# Altium footprint library QFN_TQFN_VQFN_LGA_LLC_LFCSP.PcbLib: 23 footprints (part 2 of 2)
Each footprint in its own frame and in the unit in brackets; x right, y up, seen from the top. Pads: shape width x height; smd on the part's side, far side on the other; paste and mask are expansions set on the pad; w line width, h text height; cw(c..) or ccw(c..) is an arc to the next point about the centre after c.
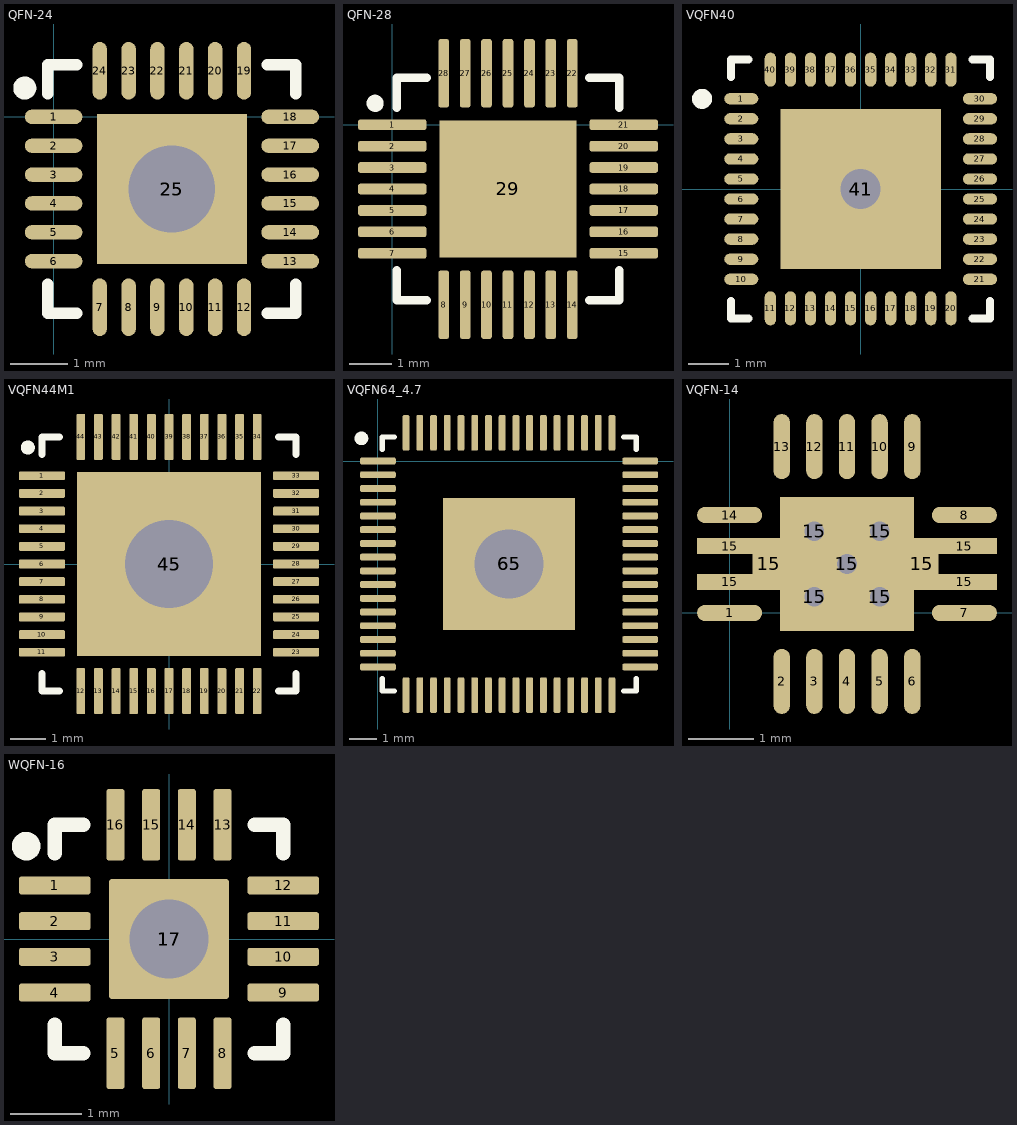
[diagram p1: the footprints below, top view; thin cyan lines are the x and y axes]

## QFN-24 [mm]
height 0.85
pads (26):
  oval 1x0.25 smd: 1(0,0) 2(0,-0.5) 3(0,-1) 4(0,-1.5) 5(0,-2) 6(0,-2.5) 13(4.1,-2.5) 14(4.1,-2) 15(4.1,-1.5) 16(4.1,-1) 17(4.1,-0.5) 18(4.1,0)
  oval 0.25x1 smd: 7(0.8,-3.3) 8(1.3,-3.3) 9(1.8,-3.3) 10(2.3,-3.3) 11(2.8,-3.3) 12(3.3,-3.3) 19(3.3,0.8) 20(2.8,0.8) 21(2.3,0.8) 22(1.8,0.8) 23(1.3,0.8) 24(0.8,0.8)
  rect 2.6x2.6 smd mask+0.102: 25(2.05,-1.25)
  round 2 hole 1.5: 25(2.05,-1.25)
Top Overlay:
  circle w0.2: c-0.5,0.5 r0.1
  lines w0.2: -0.1,-2.9 -0.1,-3.4 0.4,-3.4 ; -0.1,0.4 -0.1,0.9 0.4,0.9 ; 3.7,-3.4 4.2,-3.4 4.2,-2.9 ; 3.7,0.9 4.2,0.9 4.2,0.4
Top Paste:
  region: 2.05,-2.02 2.95,-2.02 2.95,-1.12 2.05,-1.12
  region: 2.05,-0.82 2.95,-0.82 2.95,0.08 2.05,0.08
  region: 0.85,-0.82 1.75,-0.82 1.75,0.08 0.85,0.08
  region: 0.85,-2.02 1.75,-2.02 1.75,-1.12 0.85,-1.12
Top Assembly:
  text ".Designator" at -2.948,-1.583 h1
3D body "User Library-QFN24_4x4.STEP": height 1, standoff 0, extent 0.04,-3.26 4.06,0.76

## QFN-28 [mm]
pads (29):
  rrect50% 1.6x0.25 smd: 1(0,0) 2(0,-0.5) 3(0,-1) 4(0,-1.5) 5(0,-2) 6(0,-2.5) 7(0,-3) 15(5.4,-3) 16(5.4,-2.5) 17(5.4,-2) 18(5.4,-1.5) 19(5.4,-1) 20(5.4,-0.5) 21(5.4,0)
  rrect50% 0.25x1.6 smd: 8(1.2,-4.2) 9(1.7,-4.2) 10(2.2,-4.2) 11(2.7,-4.2) 12(3.2,-4.2) 13(3.7,-4.2) 14(4.2,-4.2) 22(4.2,1.2) 23(3.7,1.2) 24(3.2,1.2) 25(2.7,1.2) 26(2.2,1.2) 27(1.7,1.2) 28(1.2,1.2)
  rect 3.2x3.2 smd: 29(2.7,-1.5)
Top Overlay:
  circle w0.2: c-0.4,0.5 r0.1
  lines w0.2: 0.1,-3.4 0.1,-4.1 0.8,-4.1 ; 0.1,0.4 0.1,1.1 0.8,1.1 ; 4.6,-4.1 5.3,-4.1 5.3,-3.4 ; 4.6,1.1 5.3,1.1 5.3,0.4
Top Assembly:
  text ".Designator" at -2.298,-1.833 h1
3D body "User Library-QFN28.STEP": height 0.9, standoff 0, extent 0.18,-4.02 5.22,1.02

## VQFN40 [mm] "QFN, 40-Leads, Body 6x6mm, Pitch 0.5mm, Thermal Pad 2.9x2.9mm, TI Recommended"
height 1
pads (42):
  oval 0.85x0.28 smd paste-0.025 mask+0.07: 1(-2.975,2.25) 2(-2.975,1.75) 3(-2.975,1.25) 4(-2.975,0.75) 5(-2.975,0.25) 6(-2.975,-0.25) 7(-2.975,-0.75) 8(-2.975,-1.25) 9(-2.975,-1.75) 10(-2.975,-2.25) 21(2.975,-2.25) 22(2.975,-1.75) 23(2.975,-1.25) 24(2.975,-0.75) 25(2.975,-0.25) 26(2.975,0.25) 27(2.975,0.75) 28(2.975,1.25) 29(2.975,1.75) 30(2.975,2.25)
  oval 0.28x0.85 smd paste-0.025 mask+0.07: 11(-2.25,-2.975) 12(-1.75,-2.975) 13(-1.25,-2.975) 14(-0.75,-2.975) 15(-0.25,-2.975) 16(0.25,-2.975) 17(0.75,-2.975) 18(1.25,-2.975) 19(1.75,-2.975) 20(2.25,-2.975) 31(2.25,2.975) 32(1.75,2.975) 33(1.25,2.975) 34(0.75,2.975) 35(0.25,2.975) 36(-0.25,2.975) 37(-0.75,2.975) 38(-1.25,2.975) 39(-1.75,2.975) 40(-2.25,2.975)
  rect 4x4 smd paste-2.45 mask+0.07: 41(0,0)
  round 1.5 hole 1: 41(0,0)
Top Overlay:
  circle w0.25: c-3.953,2.246 r0.125
  lines w0.2: -3.225,-2.79 -3.225,-3.225 -2.79,-3.225 ; -3.225,2.79 -3.225,3.225 -2.79,3.225 ; 2.79,-3.225 3.225,-3.225 3.225,-2.79 ; 2.79,3.225 3.225,3.225 3.225,2.79
Top Paste:
  region: 0.15,-0.15 0.15,-1.35 1.35,-1.35 1.35,-0.15
  region: -0.15,-0.15 -1.35,-0.15 -1.35,-1.35 -0.15,-1.35
  region: -0.15,0.15 -0.15,1.35 -1.35,1.35 -1.35,0.15
  rectangle: 0.15,0.15 1.35,1.35
Top Assembly:
  text ".Designator" at -4.998,-0.333 h1
3D body "User Library-QFN-40.STEP": height 1.05, standoff 0, extent -3.075,-3.075 3.075,3.075

## VQFN44M1 [mm]
height 1
pads (46):
  rrect25% 1.3x0.25 smd: 1(-3.6,2.5) 2(-3.6,2) 3(-3.6,1.5) 4(-3.6,1) 5(-3.6,0.5) 6(-3.6,0) 7(-3.6,-0.5) 8(-3.6,-1) 9(-3.6,-1.5) 10(-3.6,-2) 11(-3.6,-2.5) 23(3.6,-2.5) 24(3.6,-2) 25(3.6,-1.5) 26(3.6,-1) 27(3.6,-0.5) 28(3.6,0) 29(3.6,0.5) 30(3.6,1) 31(3.6,1.5) 32(3.6,2) 33(3.6,2.5)
  rrect25% 0.25x1.3 smd: 12(-2.5,-3.6) 13(-2,-3.6) 14(-1.5,-3.6) 15(-1,-3.6) 16(-0.5,-3.6) 17(0,-3.6) 18(0.5,-3.6) 19(1,-3.6) 20(1.5,-3.6) 21(2,-3.6) 22(2.5,-3.6) 34(2.5,3.6) 35(2,3.6) 36(1.5,3.6) 37(1,3.6) 38(0.5,3.6) 39(0,3.6) 40(-0.5,3.6) 41(-1,3.6) 42(-1.5,3.6) 43(-2,3.6) 44(-2.5,3.6)
  rect 5.2x5.2 smd: 45(0,0)
  round 3 hole 2.5: 45(0,0)
Top Overlay:
  circle w0.2: c-4,3.3 r0.1
  lines w0.2: -3.6,-3.1 -3.6,-3.6 -3.1,-3.6 ; -3.6,3.1 -3.6,3.6 -3.1,3.6 ; 3.1,-3.6 3.6,-3.6 3.6,-3.1 ; 3.1,3.6 3.6,3.6 3.6,3.1
Top Assembly:
  text ".Designator" at -4.998,-0.333 h1
3D body "User Library-QFN 44.STEP": height 0.8, standoff -0.05, extent -3.5,-3.5 3.502,3.502

## VQFN64_4.7 [mm] "QFN, 64-Leads, Body 9x9mm, Pitch 0.5mm, Thermal Pad 4.7x4.7mm, IPC Low Density"
height 1
pads (66):
  rrect50% 1.3x0.25 smd: 1(0,0) 2(0,-0.5) 3(0,-1) 4(0,-1.5) 5(0,-2) 6(0,-2.5) 7(0,-3) 8(0,-3.5) 9(0,-4) 10(0,-4.5) 11(0,-5) 12(0,-5.5) 13(0,-6) 14(0,-6.5) 15(0,-7) 16(0,-7.5) 33(9.55,-7.5) 34(9.55,-7) 35(9.55,-6.5) 36(9.55,-6) 37(9.55,-5.5) 38(9.55,-5) 39(9.55,-4.5) 40(9.55,-4) 41(9.55,-3.5) 42(9.55,-3) 43(9.55,-2.5) 44(9.55,-2) 45(9.55,-1.5) 46(9.55,-1) 47(9.55,-0.5) 48(9.55,0)
  rrect50% 0.25x1.3 smd: 17(1.025,-8.525) 18(1.525,-8.525) 19(2.025,-8.525) 20(2.525,-8.525) 21(3.025,-8.525) 22(3.525,-8.525) 23(4.025,-8.525) 24(4.525,-8.525) 25(5.025,-8.525) 26(5.525,-8.525) 27(6.025,-8.525) 28(6.525,-8.525) 29(7.025,-8.525) 30(7.525,-8.525) 31(8.025,-8.525) 32(8.525,-8.525) 49(8.525,1.025) 50(8.025,1.025) 51(7.525,1.025) 52(7.025,1.025) 53(6.525,1.025) 54(6.025,1.025) 55(5.525,1.025) 56(5.025,1.025) 57(4.525,1.025) 58(4.025,1.025) 59(3.525,1.025) 60(3.025,1.025) 61(2.525,1.025) 62(2.025,1.025) 63(1.525,1.025) 64(1.025,1.025)
  rect 4.8x4.8 smd: 65(4.775,-3.75)
  round 3 hole 2.5: 65(4.775,-3.75)
Top Overlay:
  circle w0.25: c-0.6,0.825 r0.125
  lines w0.2: 0.15,-7.925 0.15,-8.375 0.6,-8.375 ; 0.15,0.425 0.15,0.875 0.6,0.875 ; 8.95,-8.375 9.4,-8.375 9.4,-7.925 ; 8.95,0.875 9.4,0.875 9.4,0.425
Top Assembly:
  text ".Designator" at -0.198,-4.133 h1
3D body "User Library-QFN64-2.STEP": height 0.9, standoff 0, extent 0.255,-8.27 9.295,0.77

## VQFN-14 [mm]
pads (25):
  oval 1x0.25 smd: 1(0,0) 7(3.6,0) 8(3.6,1.5) 14(0,1.5)
  oval 0.25x1 smd: 2(0.8,-1.05) 3(1.3,-1.05) 4(1.8,-1.05) 5(2.3,-1.05) 6(2.8,-1.05) 9(2.8,2.55) 10(2.3,2.55) 11(1.8,2.55) 12(1.3,2.55) 13(0.8,2.55)
  rect 1x0.25 smd: 15(0,0.475) 15(0,1.025) 15(3.6,0.475) 15(3.6,1.025)
  rect 0.5x0.8 smd: 15(0.6,0.75) 15(2.95,0.75)
  rect 1.05x1.05 hole 0.3: 15(1.3,0.25) 15(1.3,1.25) 15(2.3,0.25) 15(2.3,1.25)
  round 0.5 hole 0.3: 15(1.8,0.75)
Top Assembly:
  text ".Designator" at -3.173,0.442 h1
3D body "QFN-14_Therm.STEP": height 1, standoff 0, extent 0.05,-1 3.55,2.5

## WQFN-16 [mm]
height 0.8
pads (18):
  rrect25% 1x0.25 smd: 1(-1.6,0.75) 2(-1.6,0.25) 3(-1.6,-0.25) 4(-1.6,-0.75) 9(1.6,-0.75) 10(1.6,-0.25) 11(1.6,0.25) 12(1.6,0.75)
  rrect25% 0.25x1 smd: 5(-0.75,-1.6) 6(-0.25,-1.6) 7(0.25,-1.6) 8(0.75,-1.6) 13(0.75,1.6) 14(0.25,1.6) 15(-0.25,1.6) 16(-0.75,1.6)
  rrect5% 1.68x1.68 smd: 17(0,0)
  round 1.68 hole 1.1: 17(0,0)
Top Overlay:
  circle w0.2: c-2,1.3 r0.1
  lines w0.2: -1.6,-1.2 -1.6,-1.6 -1.2,-1.6 ; -1.6,1.2 -1.6,1.6 -1.2,1.6 ; 1.2,-1.6 1.6,-1.6 1.6,-1.2 ; 1.2,1.6 1.6,1.6 1.6,1.2
Top Assembly:
  text ".Designator" at -4.998,-0.333 h1
3D body "User Library-QFN-16.STEP": height 0.9, standoff 0, extent -1.501,-1.501 1.501,1.501